# Altium integrated library 1N4001.IntLib: 1 symbol
Pins are listed as number, name and electrical type; pins without a type are passive.

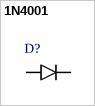
[diagram p0: symbol 1N4001]

## 1N4001
designator D?  (value not drawn)
SnapEDA_Link: https://www.snapeda.com/parts/1N4001./Multicomp/view-part/353334/?ref=snap; Value: *
footprint *DO41-10_1N4001(Primary)
pins: A ANODE, C CATHODE